# Altium footprint library Passives.PcbLib: 32 footprints (part 1 of 2)
Each footprint in its own frame and in the unit in brackets; x right, y up, seen from the top. Pads: shape width x height; smd on the part's side, far side on the other; paste and mask are expansions set on the pad; w line width, h text height; cw(c..) or ccw(c..) is an arc to the next point about the centre after c.
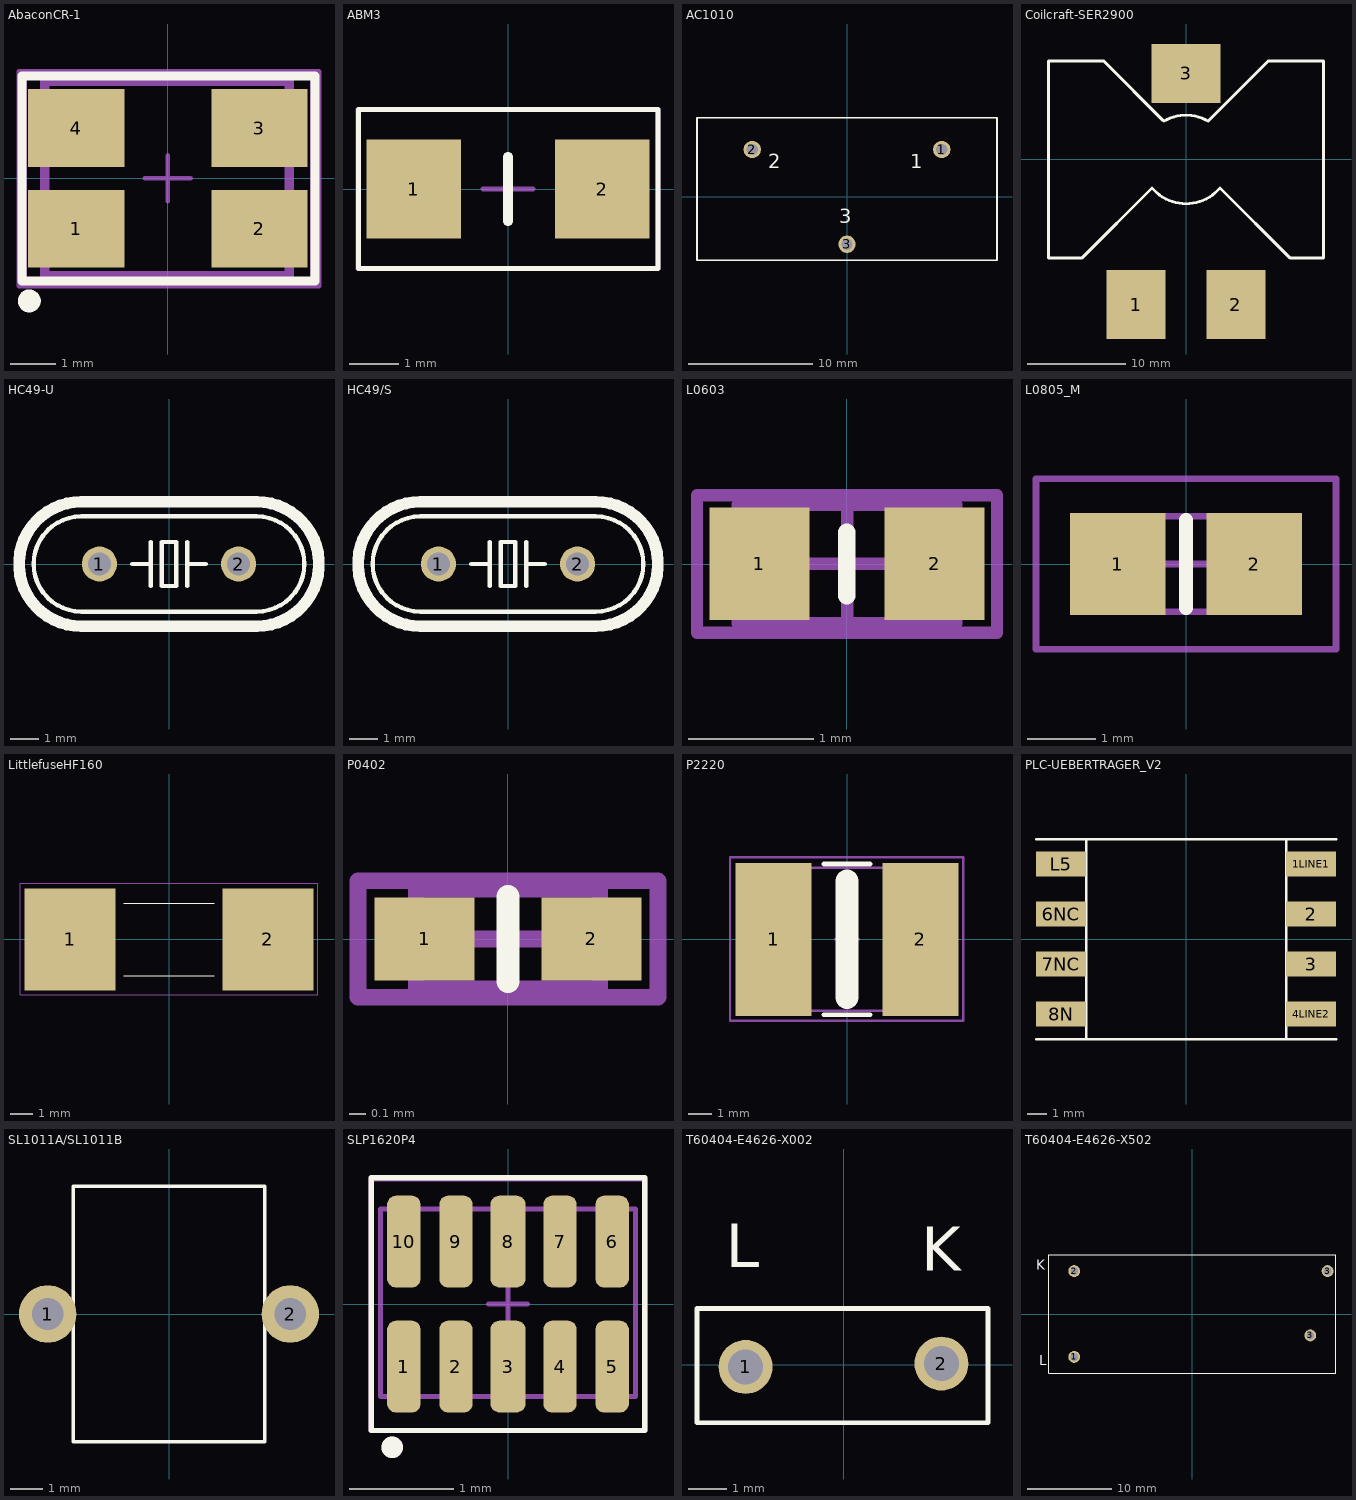
[diagram p0: the footprints below, top view; thin cyan lines are the x and y axes]

## AbaconCR-1 [mm]
height 1.3
pads (4):
  rect 2.1x1.7 smd: 1(-2,-1.1) 2(2,-1.1) 3(2,1.1) 4(-2,1.1)
Top Overlay:
  circle w0.25: c-3.025,-2.675 r0.125
  lines w0.2: -3.187,-2.238 3.213,-2.238 3.213,2.238 -3.187,2.238 -3.187,-2.238
Mechanical 1:
  lines w0.2: -2.688,-2.125 2.65,-2.125 2.65,2.113 -2.688,2.113 -2.688,-2.125
Mechanical 13:
  lines w0.1: -3.125,-2.2 3.15,-2.2 3.15,2.2 -3.125,2.2 -3.125,-2.2
Mechanical 15:
  lines w0.1: -0.5,0 0.5,0 ; 0,-0.5 0,0.5 ; -3.25,-2.35 3.3,-2.35 3.3,2.338 -3.25,2.338 -3.25,-2.35
3D body: height 1.3, standoff 0, extent -2.688,-2.15 2.65,2.113

## ABM3 [mm] "Chip, Body 5x3.2mm"
height 0.7
pads (2):
  rect 1.9x2 smd: 1(-1.9,0) 2(1.9,0)
Top Overlay:
  lines w0.1: -3.013,-1.6 3.025,-1.6 3.025,1.6 -3.013,1.6 -3.013,-1.6
  lines w0.2: 0,-0.65 0,0.65
Mechanical 13:
  lines w0.1: -3.013,-1.6 -3.013,1.6 3.025,1.6 3.025,-1.6 -3.013,-1.6
Mechanical 15:
  lines w0.1: -0.5,0 0.5,0 ; 0,-0.5 0,0.5 ; -3.025,-1.6 -3.025,1.6 3.025,1.6 3.025,-1.6 -3.025,-1.6
3D body: height 0.7, standoff 0, extent -2.6,-1.6 2.6,1.6

## AC1010 [mm] "AC1010"
pads (3):
  round 1.4 hole 0.914: 1(7.62,3.81) 2(-7.62,3.81) 3(0,-3.81)
Top Overlay:
  lines w0.127: -12.065,-5.08 12.065,-5.08 12.065,6.35 -12.065,6.35 -12.065,-5.08
  text "3" at -0.635,-2.54 h1.97
  text "2" at -6.35,1.905 h1.97
  text "1" at 5.08,1.905 h1.97
3D body: height 24.18, standoff 0.22, extent -11.9,-4.9 12.005,6.1
3D body: height 12, standoff 0.2, extent -11.9,-4.9 12.005,6.1

## Coilcraft-SER2900 [mm]
pads (3):
  rect 6x7 smd: 1(-5.08,-14.75) 2(5.08,-14.75)
  rect 7x6 smd: 3(0,8.75)
Top Overlay:
  lines w0.3: -2.303,3.95 -8.353,10 -14,10 -14,-10 -10.555,-10 -3.447,-2.893 ccw(c0,0) 3.447,-2.893 10.555,-10 14,-10 14,10 8.353,10 2.25,3.897 ccw(c0,0) -2.25,3.897

## HC49-U [mil] "HC49-U"
pads (2):
  round 48 hole 32: 1(-95,0) 2(95,0)
Top Overlay:
  lines w6: -50,0 -25,0 ; -25,-30 -25,0 ; -25,30 -25,0 ; 25,-30 25,0 ; 25,30 25,0 ; 50,0 25,0 ; -120,-65 cw(c-120,0) -120,65 120,65 cw(c120,0) 120,-65 -120,-65 ; -10,-30 10,-30 10,30 -10,30 -10,-30
  lines w16: -120,-85 cw(c-120,0) -120,85 120,85 cw(c120,0) 120,-85 -120,-85
3D body "HC49U.stp": height 537.8, standoff -110.24, extent -226.37,-98.67 226.38,98.18

## HC49/S [mil] "HC49/S"
pads (2):
  round 48 hole 32: 1(-95,0) 2(95,0)
Top Overlay:
  lines w6: -50,0 -25,0 ; -25,-30 -25,0 ; -25,30 -25,0 ; 25,-30 25,0 ; 25,30 25,0 ; 50,0 25,0 ; -120,-65 cw(c-120,0) -120,65 120,65 cw(c120,0) 120,-65 -120,-65 ; -10,-30 10,-30 10,30 -10,30 -10,-30
  lines w16: -120,-85 cw(c-120,0) -120,85 120,85 cw(c120,0) 120,-85 -120,-85
3D body "HC49S.stp": height 157.48, standoff -110.24, extent -223.42,-91.78 223.43,91.29

## L0603 [mm] "Chip Ferrit, 0603"
height 1.3
pads (2):
  rect 0.8x0.9 smd: 1(-0.7,0) 2(0.7,0)
Top Overlay:
  lines w0.14: 0,-0.254 0,0.254
Mechanical 13:
  lines w0.1: -0.875,-0.475 0.875,-0.475 0.875,0.475 -0.875,0.475 -0.875,-0.475
Mechanical 15:
  lines w0.1: -0.475,0 0.475,0 ; 0,-0.475 0,0.475 ; -1.2,-0.55 1.2,-0.55 1.2,0.55 -1.2,0.55 -1.2,-0.55
3D body "WE-CBF_0603_CBF.stp": height 0.8, standoff 0, extent -0.8,-0.4 0.8,0.4

## L0805_M [mm] "Chip, Body 2.0x1.2mm, IPC Low Density"
height 0.7
pads (2):
  rect 1.4x1.5 smd: 1(-1,0) 2(1,0)
Top Overlay:
  lines w0.2: 0,-0.65 0,0.65
Mechanical 13:
  lines w0.1: -1.075,-0.7 1.075,-0.7 1.075,0.7 -1.075,0.7 -1.075,-0.7
Mechanical 15:
  lines w0.1: -0.5,0 0.5,0 ; 0,-0.5 0,0.5 ; -2.2,-1.25 2.2,-1.25 2.2,1.25 -2.2,1.25 -2.2,-1.25
3D body "WE-CBF_0805_CBF.stp": height 0.9, standoff 0, extent -1,-0.6 1,0.6

## LittlefuseHF160 [mm] "Fuse SMD"
height 4
pads (2):
  rect 4x4.5 smd: 1(-4.35,0) 2(4.35,0)
Top Overlay:
  lines w0.05: -2,-1.6 2,-1.6 ; -2,1.6 2,1.6
Mechanical 1:
  lines w0.05: -6.55,-2.425 -6.55,2.462 6.55,2.462 6.55,-2.425 -6.55,-2.425
3D body: height 5, standoff 0.5, extent 2.612,-2.225 6.312,2.175
3D body: height 5, standoff 0.5, extent -6.312,-2.2 -2.612,2.2
3D body: height 4.2, standoff 1, extent -5.763,-1.587 5.887,1.65

## P0402 [mm] "Chip, Body 1.0x0.5mm"
height 0.55
pads (2):
  rect 0.6x0.5 smd: 1(-0.5,0) 2(0.5,0)
Top Overlay:
  lines w0.14: 0,-0.254 0,0.254
Mechanical 13:
  lines w0.1: -0.55,-0.3 0.55,-0.3 0.55,0.3 -0.55,0.3 -0.55,-0.3
Mechanical 15:
  lines w0.1: -0.3,0 0.3,0 ; 0,-0.3 0,0.3 ; -0.9,-0.35 0.9,-0.35 0.9,0.35 -0.9,0.35 -0.9,-0.35
3D body "WE-CBF_0402_CBF.stp": height 0.5, standoff 0, extent -0.5,-0.25 0.5,0.25

## P2220 [mm] "Chip , Body 5.7x6.4mm, IPC High Density"
height 1.4
pads (2):
  rect 3.26x6.6 smd: 1(-3.17,0) 2(3.17,0)
Top Overlay:
  lines w0.2: -1,-3.25 1,-3.25 ; -1,3.25 1,3.25
  lines w1: 0,-2.5 0,2.5
Mechanical 13:
  lines w0.1: -4.062,-3.087 3.925,-3.087 3.925,3.087 -4.062,3.087 -4.062,-3.087
Mechanical 15:
  lines w0.1: -0.5,0 0.5,0 ; 0,-0.5 0,0.5 ; -5.05,-3.512 5.012,-3.512 5.012,3.538 -5.05,3.538 -5.05,-3.512
3D body "WE-MPSB_222008.stp": height 1.98, standoff 0.02, extent -2.826,-2.54 2.764,2.54

## PLC-UEBERTRAGER_V2 [mm] "PLC-UEBERTRAGER_V2"
pads (8):
  rect 2.54x1.27 smd: 1LINE1(6.35,3.81) 2(6.35,1.27) 3(6.35,-1.27) 4LINE2(6.35,-3.81) 6NC(-6.35,1.27) 7NC(-6.35,-1.27) 8N(-6.35,-3.81) L5(-6.35,3.81)
Top Overlay:
  lines w0.127: -7.62,-5.08 7.62,-5.08 ; -7.62,5.08 7.62,5.08 ; -5.08,5.08 -5.08,-5.08 5.08,-5.08 5.08,5.08
3D body: height 7.6, standoff 0.4, extent -5.112,-5.075 5.062,5.062

## SL1011A/SL1011B [mm] "Surge stopper"
height 2
pads (2):
  round 1.8 hole 1: 1(-3.8,0) 2(3.8,0)
Top Overlay:
  lines w0.1: -3,-4 3,-4 3,4 -3,4 -3,-4
3D body: height 8.1, standoff 0.1, extent -3,-3.974 3,4.024

## SLP1620P4 [mm]
pads (10):
  rrect50% 0.32x0.88 smd: 1(-1,-0.6) 2(-0.5,-0.6) 4(0.5,-0.6) 5(1,-0.6) 6(1,0.6) 7(0.5,0.6) 9(-0.5,0.6) 10(-1,0.6)
  rrect50% 0.34x0.88 smd: 3(0,-0.6) 8(0,0.6)
Top Overlay:
  circle w0.15: c-1.112,-1.375 r0.028
  lines w0.05: -1.312,-1.212 1.312,-1.212 1.312,1.212 -1.312,1.212 -1.312,-1.212
Mechanical 1:
  lines w0.05: -1.225,-0.887 1.225,-0.887 1.225,0.913 -1.225,0.913 -1.225,-0.887
Mechanical 15:
  circle w0.15: c-1.11,-1.375 r0.028
  lines w0.05: -0.188,0 0.188,0 ; 0,-0.18 0,0.18 ; -1.312,-1.212 1.312,-1.212 1.312,1.2 -1.312,1.2 -1.312,-1.212
3D body: height 0.6, standoff 0, extent -1.225,-0.887 1.225,0.913

## T60404-E4626-X002 [mm] "VAC, T60404-E4626-X002"
pads (2):
  round 1.4 hole 0.914: 1(-2.54,-0.05) 2(2.54,0.038)
Top Overlay:
  lines w0.127: -3.8,-1.5 3.75,-1.5 3.75,1.462 -3.8,1.462 -3.8,-1.5
  text "L" at -3.05,2.175 h1.97
  text "K" at 2.013,2.063 h1.97

## T60404-E4626-X502 [mm] "VAC, T60404-E4626-X502"
pads (4):
  round 1.4 hole 0.914: 1(-13.97,-5.08) 2(-13.97,5.08) 3(13.97,-2.54) 3(16.01,5.08)
Top Overlay:
  lines w0.127: -17,-7.037 17.013,-7.037 17.013,7.037 -17,7.037 -17,-7.037
  text "L" at -18.125,-6.462 h1.97
  text "K" at -18.487,4.825 h1.97
3D body: height 34, standoff 0, extent -16.956,-6.975 17.025,7.025
3D body: height 17, standoff 0.2, extent -16.987,-7.037 17.037,7.037